# EAGLE library part DRA818U (library DRA818U)
VHF Band Voice Transceiver Module
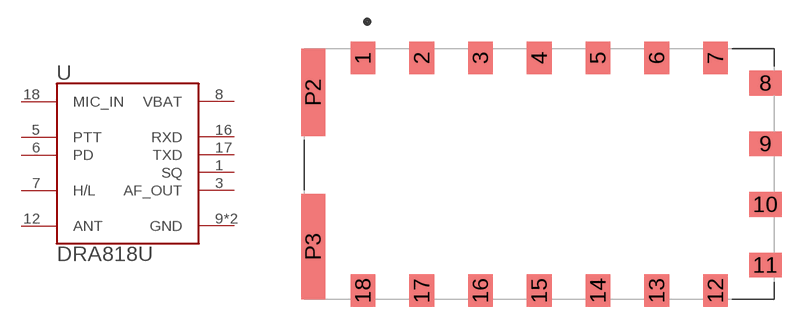
[diagram p0: symbol with the pads of DORJI_DRA818U; footprint DORJI_DRA818U]

Designator prefix U

## DRA818U (AVAILABILITY: Unavailable; MF: DORJI; MP: DRA818V; PACKAGE: Package Analog Devices; PRICE: None)  [DORJI_DRA818U]
1  SQ  out
3  AF_OUT  out
5  PTT  in
6  PD  in
7  H/L  in
8  VBAT  pwr
9  GND  pwr
10  GND  pwr
12  ANT  pas
16  RXD  in
17  TXD  out
18  MIC_IN  in

## Footprint DORJI_DRA818U (pad centres in mm)
smd 1.88 x 2.47: 1 -13.35,8.825; 2 -8.9,8.825; 3 -4.45,8.825; 4 0,8.825; 5 4.45,8.825; 6 8.9,8.825; 7 13.35,8.825; 12 13.35,-8.825; 13 8.9,-8.825; 14 4.45,-8.825; 15 0,-8.825; 16 -4.45,-8.825; 17 -8.9,-8.825; 18 -13.35,-8.825
smd 2.47 x 1.88: 8 17.125,6.9; 9 17.125,2.3; 10 17.125,-2.3; 11 17.125,-6.9
smd 1.8 x 6.6: P2 -17.125,6.2
smd 1.8 x 8: P3 -17.125,-5.5